# Altium schematic symbol library SCH - DRIVER - LED - TI LM3401MM.SchLib: 1 symbol
Pins are listed as number, name and electrical type; pins without a type are passive.

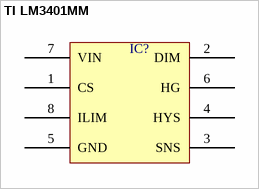
[diagram p0: symbol TI LM3401MM]

## TI LM3401MM
designator IC?  (value not drawn)
pins: 1 CS, 2 DIM, 3 SNS, 4 HYS, 5 GND, 6 HG, 7 VIN, 8 ILIM